# Altium schematic symbol library IsolatedADCs.SCHLIB: 76 symbols
Pins are listed as number, name and electrical type; pins without a type are passive.

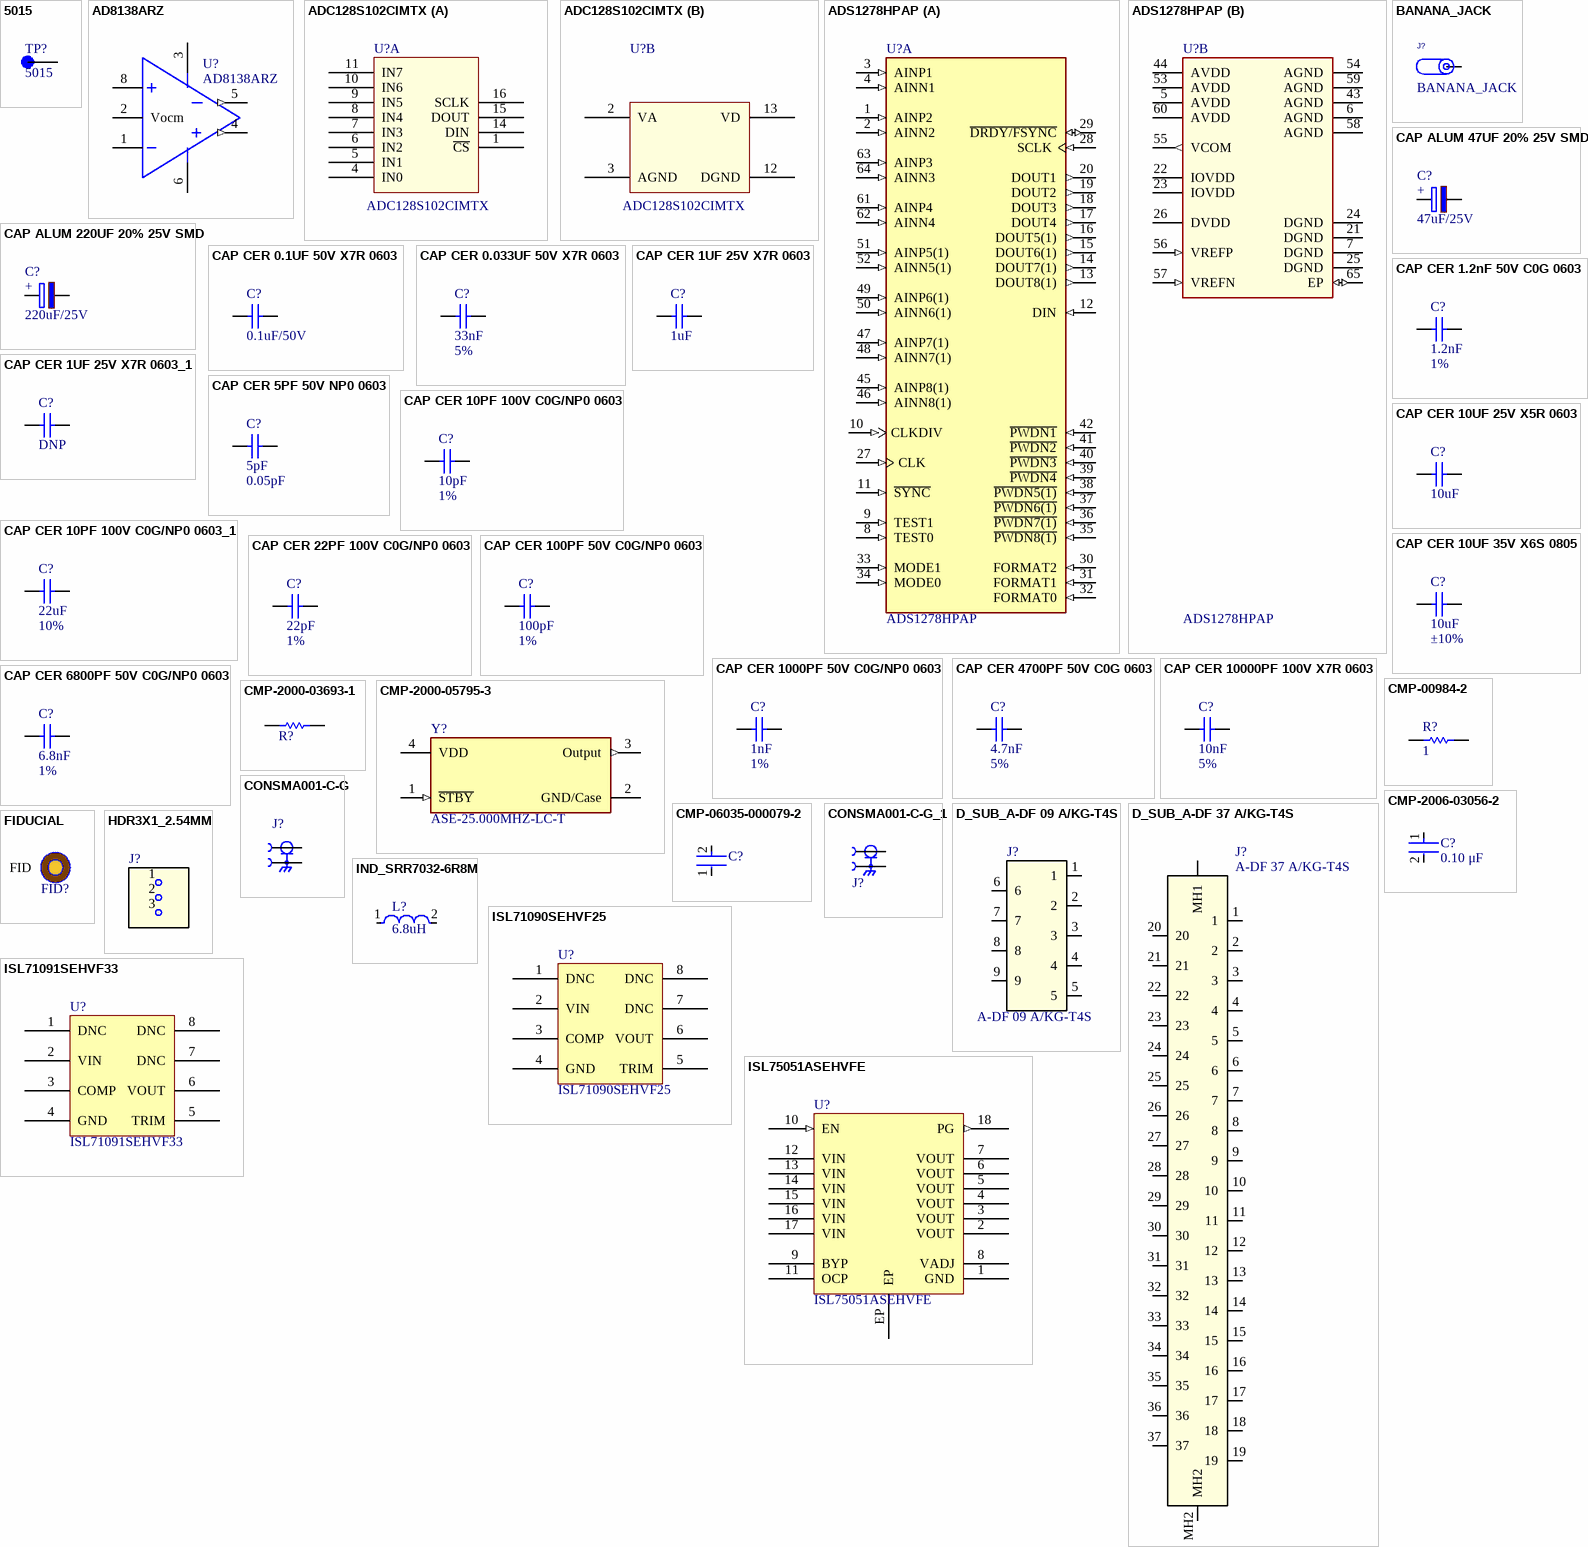
[diagram p0: symbols 5015 to ISL75051ASEHVFE]

## 5015
designator TP?
SMT Test Point- Micro Miniature-1000 pc Reels; MF: Keystone Electronics; MP: 5015; Price: None; Package: Test Point Keystone Electronics
footprint KEYSTONE_5015
pins: 1 TP

## AD8138ARZ
designator U?
IC OPAMP GP 2 CIRCUIT 8SO; Manufacturer: Analog Devices Inc.; Manufacturer Part Number: AD8138ARZ; Supplier 1: Mouser; Supplier Part Number 1: 584-AD8138ARZ
footprint FP-R-8-IPC_A
footprint FP-R-8-IPC_B
footprint FP-R-8-IPC_C
pins: 1 IN-, 2 Vocm, 3 V+, 4 OUT+ (out), 5 OUT- (out), 6 V-, 8 IN+

## ADC128S102CIMTX
designator U?
12 Bit Analog to Digital Converter 8 Input 1 SAR 16-TSSOP; Manufacturer: Texas Instruments; Number of Bits: 12; Number of A/D Converters: 1; Resolution: 12b; Number of Analog Inputs: 8; Max Power Dissipation: 15.5mW; Min Supply Voltage: 2.7V; Power Consumption: 2.3mW; Supply Type: Analog,Digital,Single; Interface: SPI,Serial; Integral Nonlinearity (INL): 1.2LSB; Max Supply Voltage: 5.25V; Full Scale Error: 2LSB; Conversion Rate: 1000KS/s; Signal to Noise Ratio (SNR): 73dB; Polarity: Unipolar; Sampling Rate: 1MS/s; Operating Supply Voltage: 5V; Mount: Surface Mount; Contact Plating: Tin,Lead; Lead Free: Contains Lead; Max Operating Temperature: 105°C; Case/Package: TSSOP; Radiation Hardening: No; Min Operating Temperature: -40°C; Packaging: Tape and Reel; Package Quantity: 2500; Number of Converters: 1; Number of Pins: 16; Number of Channels: 8; Manufacturer Part Number: ADC128S102CIMTX; Supplier Part Number 1: 557142-ADC128S102CIMTX; Supplier 1: Win Source Electronics
footprint TSOP65P640X120-16N (TSOP, 16-Leads, Body 5.00x4.40mm, Pitch 0.65mm, IPC Medium Density)
part A pins: 1 ~{CS}, 4 IN0, 5 IN1, 6 IN2, 7 IN3, 8 IN4, 9 IN5, 10 IN6, 11 IN7, 14 DIN, 15 DOUT, 16 SCLK
part B pins: 2 VA, 3 AGND, 12 DGND, 13 VD

## ADS1278HPAP
designator U?
IC ADC 24BIT SIGMA-DELTA 64HTQFP; Manufacturer: Texas Instruments; Package: 64-HTQFP; Supplier Part Number 1: 296-43534-5-ND; Value: ADS1278HPAP; Manufacturer Part Number: ADS1278HPAP; Supplier 1: Digi-Key
footprint 64-HTQFP_100X100MM
part A pins: 1 AINP2 (in), 2 AINN2 (in), 3 AINP1 (in), 4 AINN1 (in), 8 TEST0 (in), 9 TEST1 (in), 10 CLKDIV (in), 11 ~{SYNC} (in), 12 DIN (in), 13 DOUT8(1) (out), 14 DOUT7(1) (out), 15 DOUT6(1) (out), 16 DOUT5(1) (out), 17 DOUT4 (out), 18 DOUT3 (out), 19 DOUT2 (out), 20 DOUT1 (out), 27 CLK (in), 28 SCLK (in), 29 ~{DRDY/FSYNC} (io), 30 FORMAT2 (in), 31 FORMAT1 (in), 32 FORMAT0 (in), 33 MODE1 (in), 34 MODE0 (in), 35 ~{PWDN8(1)} (in), 36 ~{PWDN7(1)} (in), 37 ~{PWDN6(1)} (in), 38 ~{PWDN5(1)} (in), 39 ~{PWDN4} (in), 40 ~{PWDN3} (in), 41 ~{PWDN2} (in), 42 ~{PWDN1} (in), 45 AINP8(1) (in), 46 AINN8(1) (in), 47 AINP7(1) (in), 48 AINN7(1) (in), 49 AINP6(1) (in), 50 AINN6(1) (in), 51 AINP5(1) (in), 52 AINN5(1) (in), 61 AINP4 (in), 62 AINN4 (in), 63 AINP3 (in), 64 AINN3 (in)
part B pins: 5 AVDD (power), 6 AGND (power), 7 DGND (power), 21 DGND (power), 22 IOVDD (power), 23 IOVDD (power), 24 DGND (power), 25 DGND (power), 26 DVDD (power), 43 AGND (power), 44 AVDD (power), 53 AVDD (power), 54 AGND (power), 55 VCOM (out), 56 VREFP (in), 57 VREFN (in), 58 AGND (power), 59 AGND (power), 60 AVDD (power), 65 EP (io)

## BANANA_JACK
designator J?
CONN BANANA JACK THRD; Manufacturer: Cinch Connectivity; Manufacturer Part Number: 108-0740-001; Supplier Part Number 1: J147-ND; Supplier 1: Digi-Key
footprint BAN-JACK-108-0740-001 (BAN-JACK)
pins: 1 IN1

## CAP ALUM 47UF 20% 25V SMD
designator C?, comment 47uF/25V
CAP ALUM 47UF 20% 25V SMD; Manufacturer Part Number: EDK476M025A9GAA; Manufacturer: KEMET; Supplier Part Number 1: 399-6051-1-ND; value: 47uF/25V; Supplier 1: Digi-Key; Height: 5.5mm; ComponentLink1Description: New link; ComponentLink1URL: *; Tolerance: ±20%
footprint CAP_AE660X550N
pins: 1, 2
text: +

## CAP ALUM 220UF 20% 25V SMD
designator C?, comment 220uF/25V
CAP ALUM 220UF 20% 25V SMD; Manufacturer Part Number: EMZA250ADA221MHA0G; Manufacturer: United Chemi-Con; Supplier Part Number 1: 565-2550-1-ND; value: 220uF/25V; Supplier 1: Digi-Key; Height: 10.5mm; ComponentLink1Description: New link; ComponentLink1URL: *; Tolerance: ±20%
footprint CAP_AE830X1050N
pins: 1, 2
text: +

## CAP CER 0.1UF 50V X7R 0603
designator C?, comment 0.1uF/50V
CAP CER 0.1UF 50V X7R 0603; Manufacturer Part Number: CL10B104KB8NNNC; Manufacturer: Samsung Electro-Mechanics; Tolerance: ±10%; Supplier Part Number 1: 1276-1000-1-ND; Package: 0603; value: 0.1uF/50V; Supplier 1: Digi-Key; Height: 0.9mm; ComponentLink1Description: New link; ComponentLink1URL: *; Voltage - Rated: 50V
footprint CAPC1608X90N (C0603)
pins: 1, 2

## CAP CER 0.033UF 50V X7R 0603
designator C?, comment 33nF  Tolerance: 5%
CAP CER 0.033UF 50V X7R 0603; Manufacturer Part Number: 06035C333JAT2A; Manufacturer: KYOCERA AVX; Supplier Part Number 1: 478-3723-1-ND; Package: 0603; value: 33nF; Supplier 1: Digi-Key; Height: 0.9mm; ComponentLink1Description: New link; ComponentLink1URL: *; Voltage - Rated: 50V
footprint CAPC1608X90N (C0603)
pins: 1, 2

## CAP CER 1.2nF 50V C0G 0603
designator C?, comment 1.2nF  Tolerance: 1%
CAP CER 1.2nF 50V C0G 0603; Manufacturer Part Number: C0603C122F5GAC7867; Manufacturer: KEMET; Supplier Part Number 1: 399-17578-1-ND; Package: 0603; value: 1.2nF; Supplier 1: Digi-Key; Height: 0.9mm; ComponentLink1Description: New link; ComponentLink1URL: *; Voltage - Rated: 50V
footprint CAPC1608X90N (C0603)
pins: 1, 2

## CAP CER 1UF 25V X7R 0603
designator C?, comment 1uF
CAP CER 1UF 25V X7R 0603; Manufacturer Part Number: GCM188R71E105KA64D; Manufacturer: Murata Electronics; Tolerance: ±10%; Supplier Part Number 1: 490-10673-1-ND; Package: 0603; value: 1uF; Supplier 1: Digi-Key; Height: 0.9mm; ComponentLink1Description: New link; ComponentLink1URL: *; Voltage - Rated: 25V
footprint CAPC1608X90N (C0603)
pins: 1, 2

## CAP CER 1UF 25V X7R 0603_1
designator C?, comment DNP
CAP CER 1UF 25V X7R 0603; Manufacturer Part Number: GCM188R71E105KA64D; Manufacturer: Murata Electronics; Tolerance: ±10%; Supplier Part Number 1: 490-10673-1-ND; Package: 0603; value: 1uF; Supplier 1: Digi-Key; Height: 0.9mm; ComponentLink1Description: New link; ComponentLink1URL: *; Voltage - Rated: 25V
footprint CAPC1608X90N (C0603)
pins: 1, 2

## CAP CER 5PF 50V NP0 0603
designator C?, comment 5pF  Tolerance: 0.05pF
CAP CER 5PF 50V NP0 0603; Manufacturer Part Number: CBR06C509A5GAC; Manufacturer: KEMET; Supplier Part Number 1: 399-17323-1-ND; Package: 0603; value: 5pF; Supplier 1: Digi-Key; Height: 0.9mm; ComponentLink1Description: New link; ComponentLink1URL: *; Voltage - Rated: 50V
footprint CAPC1608X90N (C0603)
pins: 1, 2

## CAP CER 10PF 100V C0G/NP0 0603
designator C?, comment 10pF  Tolerance: 1%
CAP CER 10PF 100V C0G/NP0 0603; Manufacturer Part Number: 06031A100FAT2A; Manufacturer: KYOCERA AVX; Supplier Part Number 1: 478-5769-1-ND; Package: 0603; value: 10pF; Supplier 1: Digi-Key; Height: 0.9mm; ComponentLink1Description: New link; ComponentLink1URL: *; Voltage - Rated: 100V
footprint CAPC1608X90N (C0603)
pins: 1, 2

## CAP CER 10PF 100V C0G/NP0 0603_1
designator C?, comment 22uF  Tolerance: 10%
CAP CER 10PF 100V C0G/NP0 0603; Manufacturer Part Number: CL31A226KOHNNNE; Manufacturer: Samsung Electro-Mechanics; Supplier Part Number 1: 1276-3048-1-ND; value: 22uF; Supplier 1: Digi-Key; Height: 1.8mm; ComponentLink1Description: New link; ComponentLink1URL: *; Package: 1206
footprint CAPC3216X180N
pins: 1, 2

## CAP CER 10UF 25V X5R 0603
designator C?, comment 10uF
CAP CER 10UF 25V X5R 0603; Manufacturer Part Number: GRM188R61E106KA73D; Manufacturer: Murata Electronics; Tolerance: ±10%; Supplier Part Number 1: 490-18214-1-ND; Package: 0603; value: 10uF; Supplier 1: Digi-Key; Height: 1mm; ComponentLink1Description: New link; ComponentLink1URL: *; Voltage - Rated: 25V
footprint CAPC1608X90N (C0603)
pins: 1, 2

## CAP CER 10UF 35V X6S 0805
designator C?, comment 10uF  Tolerance: ±10%
CAP CER 10UF 35V X6S 0805; Manufacturer Part Number: GRM21BC8YA106KE11L; Manufacturer: Murata Electronics; Supplier Part Number 1: 490-10504-1-ND; Package: 0805; value: 10uF; Supplier 1: Digi-Key; Height: 1.45mm; ComponentLink1Description: New link; ComponentLink1URL: *; Voltage - Rated: 35V
footprint CAPC2012X145USR (Capacitor, Chip; 2.00 mm L X 1.25 mm W X 1.45 mm H body)
pins: 1, 2

## CAP CER 22PF 100V C0G/NP0 0603
designator C?, comment 22pF  Tolerance: 1%
CAP CER 22PF 100V C0G/NP0 0603; Manufacturer Part Number: GCM1885C2A220FA16D; Manufacturer: Murata Electronics; Supplier Part Number 1: 490-16413-1-ND; Package: 0603; value: 22pF; Supplier 1: Digi-Key; Height: 0.9mm; ComponentLink1Description: New link; ComponentLink1URL: *; Voltage - Rated: 100V
footprint CAPC1608X90N (C0603)
pins: 1, 2

## CAP CER 100PF 50V C0G/NP0 0603
designator C?, comment 100pF  Tolerance: 1%
CAP CER 100PF 50V C0G/NP0 0603; Manufacturer Part Number: 06035A101FAT2A; Manufacturer: KYOCERA AVX; Supplier Part Number 1: 478-6202-1-ND; Package: 0603; value: 100pF; Supplier 1: Digi-Key; Height: 0.9mm; ComponentLink1Description: New link; ComponentLink1URL: *; Voltage - Rated: 50V
footprint CAPC1608X90N (C0603)
pins: 1, 2

## CAP CER 1000PF 50V C0G/NP0 0603
designator C?, comment 1nF  Tolerance: 1%
CAP CER 1000PF 50V C0G/NP0 0603; Manufacturer Part Number: 06035A102FAT2A; Manufacturer: KYOCERA AVX; Supplier Part Number 1: 478-5005-1-ND; Package: 0603; value: 1nF; Supplier 1: Digi-Key; Height: 0.9mm; ComponentLink1Description: New link; ComponentLink1URL: *; Voltage - Rated: 50V
footprint CAPC1608X90N (C0603)
pins: 1, 2

## CAP CER 4700PF 50V C0G 0603
designator C?, comment 4.7nF  Tolerance: 5%
CAP CER 4700PF 50V C0G 0603; Manufacturer Part Number: CGA3E2C0G1H472J080AA; Manufacturer: TDK Corporation; Supplier Part Number 1: 445-6912-1-ND; Package: 0603; value: 4.7nF; Supplier 1: Digi-Key; Height: 0.9mm; ComponentLink1Description: New link; ComponentLink1URL: *; Voltage - Rated: 50V
footprint CAPC1608X90N (C0603)
pins: 1, 2

## CAP CER 6800PF 50V C0G/NP0 0603
designator C?, comment 6.8nF  Tolerance: 1%
CAP CER 6800PF 50V C0G/NP0 0603; Manufacturer Part Number: C0603C682F3GAC7867; Manufacturer: KEMET; Voltage - Rated: 25V; Supplier Part Number 1: 399-C0603C682F3GAC7867CT-ND; Package: 0603; value: 6.8nF; Supplier 1: Digi-Key; Height: 0.9mm; ComponentLink1Description: New link; ComponentLink1URL: *
footprint CAPC1608X90N (C0603)
pins: 1, 2

## CAP CER 10000PF 100V X7R 0603
designator C?, comment 10nF  Tolerance: 5%
CAP CER 10000PF 100V X7R 0603; Manufacturer Part Number: 06031C103JAT2A; Manufacturer: KYOCERA AVX; Supplier Part Number 1: 478-3700-1-ND; Package: 0603; value: 10nF; Supplier 1: Digi-Key; Height: 0.9mm; ComponentLink1Description: New link; ComponentLink1URL: *; Voltage - Rated: 100V
footprint CAPC1608X90N (C0603)
pins: 1, 2

## CMP-00984-2
designator R?, comment 1
RES, RM, 1 OHM, 5 %, 1/10 W, 200 PPM, 0603, THICK FILM; FM (SMD) Part Number: M55342L12B1J00RWB; Manufacturer: Vishay; Tolerance: 1%; Max Power Dissipation: 100mW; Voltage Rating: 50V; Failure Rate Level: R; Temperature Coefficient: 200ppm; Mil Spec: MIL-PRF-55342/12; Resistance: 1; Mount: SMD; Style: RM; ComponentLink1URL: https://www.vishay.com/docs/31010/rcwpm.pdf; Case/Package: 0603 (1608 mm); Number of Pins: 2; Operating Temperature Low: -65°C; RoHS: No; Composition: Thick Film; ComponentLink1Description: Datasheet - Manufacturer; Operating Temperature High: 150°C; Manufacturer Part Number: M55342L12B1J00RWB; ComponentLink2Description: Datasheet - Mil Spec; ComponentLink2URL: https://quicksearch.dla.mil/qsDocDetails.aspx?ident_number=208057; EM Part Number: M55342L12B1J00RWB
footprint RM0603B (RM0603 Chip Resistor, Config B, 2-Leads, Body 1.63x0.82mm, IPC Medium Density)
pins: 1, 2
1 alternate drawing of the same symbol

## CMP-2000-03693-1
designator R?, comment TNPW060310K0BETA  (value not drawn)
10.0K 0.1% 0603; Manufacturer: Vishay Dale; Part Number: TNPW060310K0BETA; Manufacturer Part Number: TNPW060310K0BETA
footprint RESC1609X55X30ML10T20 (Chip Resistor, 2-Leads, Body 1.60x0.85mm, IPC Low Density)
footprint RESC1609X55X30LL10T20 (Chip Resistor, 2-Leads, Body 1.60x0.85mm, IPC High Density)
footprint RESC1609X55X30NL10T20 (Chip Resistor, 2-Leads, Body 1.60x0.85mm, IPC Medium Density)
pins: 1, 2
1 alternate drawing of the same symbol

## CMP-2000-05795-3
designator Y?, comment ASE-25.000MHZ-LC-T
XTAL Oscillator 25MHz ±50ppm CMOS 3.3V 4-SMD 3.2mm x 2.5mm; Manufacturer: Abracon; Load Capacitance: 15pF; Min Supply Voltage: 3.135V; Max Supply Voltage: 3.465V; Max Supply Current: 13mA; Max Operating Temperature: 85°C; Termination: SMD/SMT; Operating Frequency: 25 MHz; Height: 0.047inch; Frequency: 25MHz; Mount: Surface Mount; Number of Pins: 4; Length: 3.2mm; Packaging: Tape and Reel; Frequency Stability: 50ppm; Series: ASE; Radiation Hardening: No; Package Quantity: 1000; Width: 2.5mm; Min Operating Temperature: -40°C; Lead Free: Lead Free; Case/Package: SMD/SMT; Depth: 2.5mm; Operating Supply Voltage: 3.3V; Manufacturer Part Number: ASE-25.000MHZ-LC-T
footprint FP-ASE-MFG
pins: 1 ~{STBY} (in), 2 GND/Case (power), 3 Output (out), 4 VDD (power)

## CMP-2006-03056-2
designator C?, comment 0.10 μF
CAP CER 0.1UF 50V 5% X7R 0603; Manufacturer Part Number: C0603C104J5RACTU; Manufacturer: KEMET; Automotive Grade: Grade 1; Tolerance: 0.05; Material: Ceramic; Temperature Coefficient: 30ppm/°C; ComponentLink2Description: Datasheet; Voltage Rating: 50 V; Digikey Description: CAP CER 0.1UF 50V 5% X7R 0603; Temperature Range High: +125°C; Device Class L2: Capacitors; Capacitance: 0.10 μF; Value: 0.10 μF; Octopart: https://octopart.com/c0603c104j5ractu-kemet-10440638; RoHS: TRUE; Mouser Description: Multilayer Ceramic Capacitors MLCC - SMD/SMT 50volts 0.1uF X7R 5%; Temperature Range Low: -55°C; Automotive: Yes; Lead Free: Yes; ComponentLink2URL: https://api.kemet.com/component-edge/download/datasheet/C0603C100J5GACAUTO.pdf; Device Class L3: Ceramic Capacitors; Package: C0603C-CF; Category: Cap; Temperature: -55°C to +125°C; Height: 0.87mm; Temperature Characteristic: X7R; Device Class L1: Passive Components
footprint FP-C0603C-CF-MFG
footprint FP-C0603C-CF-IPC_C
footprint FP-C0603C-CF-IPC_B
footprint FP-C0603C-CF-IPC_A
pins: 1, 2

## CMP-06035-000079-2
designator C?, comment GRM31CR60J227ME11L  (value not drawn)
Chip Multilayer Ceramic Capacitors for General Purpose, 1206, 220uF, X5R, 15%, 20%, 6.3V; Manufacturer: Murata; Mount: Surface Mount; Width: 0.063inch; Voltage Rating: 6.3V; Packaging: Cut Tape; Dielectric: X5R; Capacitance: 220uF; Voltage Rating (DC): 6.3V; Case/Package: 1206; Thickness: 0.075inch; Tolerance: 20%; Max Operating Temperature: 85°C; Case Code (Metric): 3216; Min Operating Temperature: -55°C; Length: 0.126inch; REACH SVHC: No SVHC; Case Code (Imperial): 1206; Manufacturer Part Number: GRM31CR60J227ME11L
footprint FP-GRM31C-0_3-e0_3_0_9-IPC_C
footprint FP-GRM31C-0_3-e0_3_0_9-MFG
footprint FP-GRM31C-0_3-e0_3_0_9-IPC_A
footprint FP-GRM31C-0_3-e0_3_0_9-IPC_B
pins: 1, 2

## CONSMA001-C-G
designator J?, comment 73251-1350  (value not drawn)
RF Connectors / Coaxial Connectors SMA ST PCB-JCK STD SMT; Manufacturer: Molex; Package: None; Supplier 1: Arrow Electronics; Supplier Part Number 1: 73251-1350; Manufacturer Part Number: 73251-1350; RoHS: Yes; Category: RF / Coaxial Connectors; Stock 1: 2; Pricing 1: 1=2.43470, 10=2.31840, 100=2.10910, 1000=1.92920, 2500=1.88760 (USD)
footprint MOLEX_73251-1350
pins: 1, S1 2, S2 2, S3 2, S4 2

## CONSMA001-C-G_1
designator J?, comment 73251-1350  (value not drawn)
RF Connectors / Coaxial Connectors SMA ST PCB-JCK STD SMT; Manufacturer: Molex; MP: CONSMA001-C-G; MF: Linx Technologies; Value: *; Digi-Key_Part_Number: 343-CONSMA001-C-G-ND; Package: None; Supplier 1: Arrow Electronics; Supplier Part Number 1: 73251-1350; Manufacturer Part Number: 73251-1350; RoHS: Yes; Category: RF / Coaxial Connectors; Stock 1: 2; Pricing 1: 1=2.43470, 10=2.31840, 100=2.10910, 1000=1.92920, 2500=1.88760 (USD)
footprint MOLEX_73251-1350
pins: 1, S1 2, S2 2, S3 2, S4 2

## D_SUB_A-DF 09 A/KG-T4S
designator J?, comment A-DF 09 A/KG-T4S
CONN D-SUB RCPT 9POS R/A SLDR; Manufacturer: Assmann; Manufacturer Part Number: A-DF 09 A/KG-T4S; Supplier Part Number 1: AE10924-ND; Supplier 1: Digi-Key; value: A-DF 09 A/KG-T4S
footprint CONN_A-DF 09 A/KG-T4S_ASM
pins: 1, 2, 3, 4, 5, 6, 7, 8, 9

## D_SUB_A-DF 37 A/KG-T4S
designator J?, comment A-DF 37 A/KG-T4S
CONN D-SUB RCPT 37POS R/A SLDR; Manufacturer: Assmann WSW Components; Manufacturer Part Number: A-DF 37 A/KG-T4S; Supplier Part Number 1: AE10944-ND; Supplier 1: Digi-Key
footprint CONN_A-DF 37 A/KG-T4S
pins: 1, 2, 3, 4, 5, 6, 7, 8, 9, 10, 11, 12, 13, 14, 15, 16, 17, 18, 19, 20, 21, 22, 23, 24, 25, 26, 27, 28, 29, 30, 31, 32, 33, 34, 35, 36, 37, MH1, MH2

## FIDUCIAL
designator FID?  (no BOM)
Fiducial with various available footprints
footprint FID_040
pins: FID (in)

## HDR3X1_2.54MM
designator J?
CONN HEADER VERT 3POS 2.54MM; Manufacturer Part Number: 61300311121; Manufacturer: Würth Elektronik; Supplier Part Number 1: 732-5316-ND; Supplier 1: Digi-Key
footprint 3pin  2.54 mm Breakaway (Molex Verticle 4 pin Debug header)
pins: 1, 2, 3

## IND_SRR7032-6R8M
designator L?, comment 6.8uH
FIXED IND 6.8UH 1.6A 54 MOHM SMD; Manufacturer: Bourns Inc.; Manufacturer Part Number: SRR7032-6R8M; Supplier Part Number 1: 652-SRR7032-6R8M; value: 6.8uH; Supplier 1: Mouser
footprint IND_BOURNS_SRR7032
pins: 1, 2

## ISL71090SEHVF25
designator U?
Voltage Reference, 2.5 VDC, Precision Low Noise, 100krad, CFP-8, Class V; Manufacturer: Renesas / Intersil; EM Part Number: ISL71090SEHF25/PROTO; FM (SMD) Part Number: 5962R1321102VXC; Output Voltage: 2.5V; Output Current Max: 20mA; SEL: 86MeV*cm2/mg; Lead Form: Yes; Input Voltage Low: 4V; Input Voltage High: 40V; Manufacturer Part Number: ISL71090SEHVF25; Package: 8 Lead Flatpack; ComponentLink2Description: Datasheet - Mil Spec; ComponentLink1URL: https://www.renesas.com/us/en/www/doc/datasheet/isl71090seh25.pdf; Distributor: Avnet; ComponentLink1Description: Datasheet - Manufacturer; Mount Type: SMT; ComponentLink2URL: https://landandmaritimeapps.dla.mil/Downloads/MilSpec/Smd/13211.pdf; TID: 100krad; Supplier Part Number 1: ISL71090SEHVF25; Supplier 1: Renesas / Intersil
footprint CFP127P1040X279-8N (CFP, 8-Leads, Body 6.73x6.73mm (max), Pitch 1.27mm, IPC Medium Density)
pins: 1 DNC, 2 VIN (power), 3 COMP, 4 GND (power), 5 TRIM (hiz), 6 VOUT (power), 7 DNC, 8 DNC

## ISL71091SEHVF33
designator U?
Voltage Reference, Precision Low Noise, 3.3 VDC, 100krad, CFP-8, Class V; Manufacturer: Renesas / Intersil; EM Part Number: ISL71091SEHF33/PROTO; FM (SMD) Part Number: 5962R1420802VXC; Output Voltage: 3.3V; Output Current Max: 10mA; SEL: 86MeV*cm2/mg; Lead Form: Yes; Quiscent Current: 0.3mA Typical; Supply Voltage Min: 4.6V; HBR Standard: TBD; Supply Voltage Max: 30V; Temperature Coefficient: 6ppm/°C; Manufacturer Part Number: ISL71091SEHVF33; ComponentLink2Description: Datasheet - Mil Spec; ComponentLink1URL: https://www.renesas.com/us/en/www/doc/datasheet/isl71091seh33.pdf; ComponentLink1Description: Datasheet - Manufacturer; Mount Type: SMD; ComponentLink2URL: https://landandmaritimeapps.dla.mil/Downloads/MilSpec/Smd/14208.pdf; TID: 100krad; RoHS: Yes; Operating Temperature Max: 125°C; Case/Package: CFP-8; Operating Temperature Min: -55°C; Device Class: V; Supplier Part Number 1: ISL71091SEHVF33; Supplier 1: Renesas / Intersil
footprint CFP127P1040X279-8N (CFP, 8-Leads, Body 6.73x6.73mm (max), Pitch 1.27mm, IPC Medium Density)
pins: 1 DNC, 2 VIN (power), 3 COMP, 4 GND (power), 5 TRIM (hiz), 6 VOUT (power), 7 DNC, 8 DNC

## ISL75051ASEHVFE
designator U?
Voltage regulator, linear, variable, 3 A, CFP-18 exposed pad, class V; Manufacturer: Renesas / Intersil; FM (SMD) Part Number: 5962R1121203VYC; EM Part Number: ISL75051ASEHFE/PROTO; Output Voltage: 0.8 - 5.0V; TID: 50krad (LDR), 100krad (HDR); Output Current Max: 3A; SEL: 86.3MeV*cm2/mg; Input Voltage High: 6V; Mass: 1.07g; Input Voltage Low: 2.2V; Lead Form: Yes; Manufacturer Part Number: ISL75051ASEHVFE; ComponentLink2URL: https://landandmaritimeapps.dla.mil/downloads/milspec/smd/11212.pdf; ComponentLink1URL: https://www.renesas.com/us/en/www/doc/datasheet/isl75051aseh-3051aseh.pdf; Package: CFP-18 (exposed pad); Mount Type: SMT; Distributor: Avnet; ComponentLink1Description: Datasheet - Manufacturer; ComponentLink2Description: Datasheet - Mil Spec; Device Class: V; Supplier Part Number 1: ISL75051ASEHVFE; Supplier 1: Renesas / Intersil
footprint CFP102P1520X310-18AN (CFP, 18-Leads, Exposed Pad, Body 12.09x10.08mm (max), Pitch 1.02mm, IPC Medium Density)
pins: 1 GND (power), 2 VOUT (power), 3 VOUT (power), 4 VOUT (power), 5 VOUT (power), 6 VOUT (power), 7 VOUT (power), 8 VADJ, 9 BYP, 10 EN (in), 11 OCP, 12 VIN (power), 13 VIN (power), 14 VIN (power), 15 VIN (power), 16 VIN (power), 17 VIN (power), 18 PG (out), EP

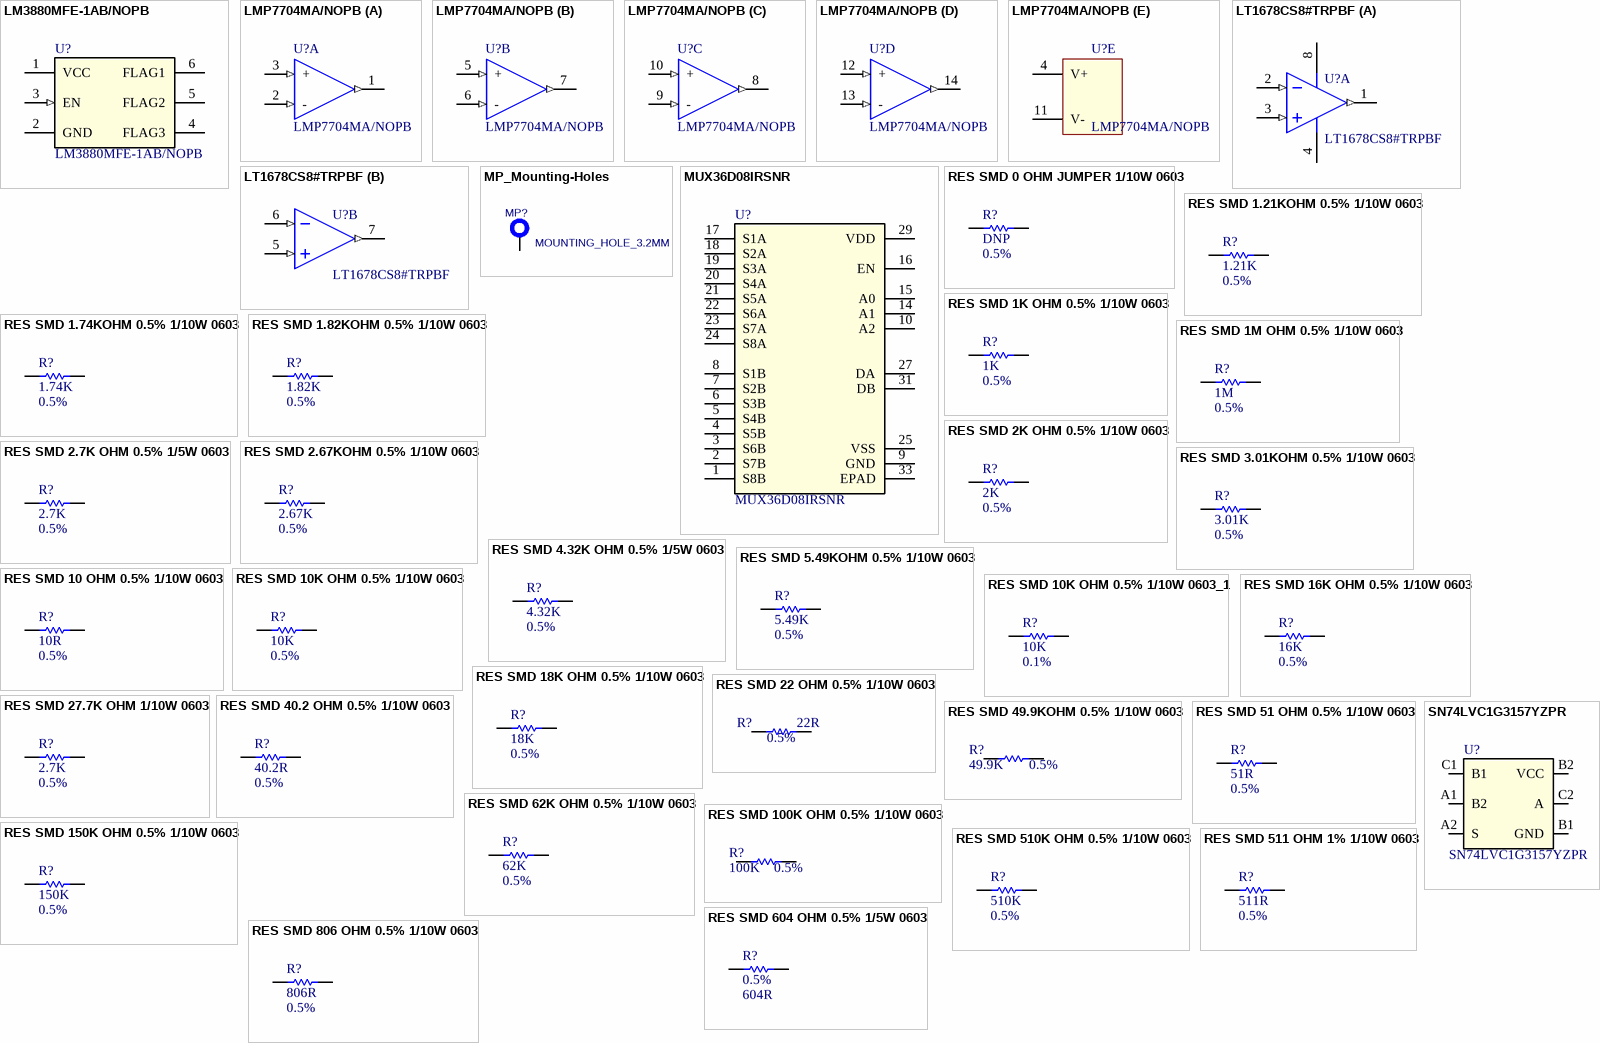
[diagram p1: symbols LM3880MFE-1AB/NOPB to SN74LVC1G3157YZPR]

## LM3880MFE-1AB/NOPB
designator U?
IC PWR SUPPLY SEQUENCER SOT23-6; Manufacturer: Texas Instruments; Supplier Part Number 1: LM3880MFE-1AB/NOPBTR-ND; Manufacturer Part Number: LM3880MFE-1AB/NOPB; Supplier 1: Digi-Key
footprint SOT-23-6
pins: 1 VCC (power), 2 GND (power), 3 EN (in), 4 FLAG3 (oc), 5 FLAG2 (oc), 6 FLAG1 (oc)

## LMP7704MA/NOPB
designator U?
General Purpose Amplifier 4 Circuit Rail-to-Rail 14-SOIC; Manufacturer: TI; EM Part Number: ISL70244SEHF/PROTO; FM (SMD) Part Number: 5962F1324801VXC; Supply Voltage Min: 2.7V; HBR Standard: TBD; SEL: 86.4MeV*cm2/mg; Supply Voltage Max: 40V; Lead Form: Yes; TID: 50 krad (LDR), 300 krad (HDR); Manufacturer Part Number: LMP7704MA/NOPB; Case/Package: SOIC-14; Device Class: V; Mount Type: SMD; Operating Temperature Max: 125°C; RoHS: Yes; Distributor: Avnet; Operating Temperature Min: -55°C; Supplier Part Number 1: ISL70244SEHVF; Supplier 1: Renesas / Intersil
footprint CDFP3-F10 (CFP, 10-Leads, Body 7.37x7.11mm (max), Pitch 1.27mm, IPC Medium Density)
part A pins: 1 OUT (out), 2 - (in), 3 + (in)
part B pins: 5 + (in), 6 - (in), 7 OUT (out)
part C pins: 8 OUT (out), 9 - (in), 10 + (in)
part D pins: 12 + (in), 13 - (in), 14 OUT (out)
part E pins: 4 V+ (power), 11 V- (power)

## LT1678CS8#TRPBF
designator U?
Dual Channel, Very Low 1/f Corner Frequency Precision Operational Amplifier, 20 MHz Typical GBW, 6 V/us Typical SR, 3 to 36 V, 8-Pin SOIC (S8-8), Commercial, Pb-Free, Reel; Manufacturer: Linear Technology; Linear Technology Part Number: LT1678; Vs Max (V): 36; Is (mA) Typical: 2; Vs Min (V): 3; SR (V/us) Typical: 6; Vos (mV) Typical: 0.035; Vos (mV) Guaranteed: 0.1; GBW (MHz) Typical: 20; ComponentLink1Description: Manufacturer URL; ComponentLink2Description: Datasheet; PackageDescription: 8-Pin Plastic Small Outline, Body 4.9 x 3.9 mm, Pitch 1.27 mm; PackageReference: LT-S8-8; RoHS: Pb-Free; ComponentLink3Description: Package Specification; Channels (#): 2; ComponentLink1URL: http://www.linear.com/; ComponentLink3URL: http://cds.linear.com/docs/en/packaging/05081610_G_SO8.pdf; PackageVersion: Rev G; RevisionNote: URLs updated; ComponentLink2URL: http://cds.linear.com/docs/en/datasheet/16789fs.pdf; Mounting Technology: Surface Mount; Type: VFB; Packing: Reel; Manufacturer Part Number: LT1678CS8#TRPBF; Supplier Part Number 1: LT1678CS8#TRPBFTR-ND; Supplier 1: Digi-Key
footprint LT-S8-8_N (SOIC, 8-Leads, Body 4.9x3.9mm, Pitch 1.27mm, IPC Medium Density)
footprint LT-S8-8_M (SOIC, 8-Leads, Body 4.9x3.9mm, Pitch 1.27mm, IPC Low Density)
footprint LT-S8-8_L (SOIC, 8-Leads, Body 4.9x3.9mm, Pitch 1.27mm, IPC High Density)
part A pins: 1 OUT A (out), 2 -IN A (in), 3 +IN A (in), 4, 8
part B pins: 5 +IN B (in), 6 -IN B (in), 7 OUT B (out)

## MP_Mounting-Holes
designator MP?  (no BOM)
=CurrentFootprint; B - Value: Not a Part; A - Level: 0
footprint MOUNTING_HOLE_3.2MM (NPTH 2.2mm Hole Used in Raspberry Pi Camera)
pins: 1

## MUX36D08IRSNR
designator U?
IC SWITCH DUAL 32WQFN; Manufacturer: Texas Instruments; Manufacturer Part Number: MUX36D08IRSNR; Supplier Part Number 1: 296-49113-1-ND; Supplier 1: Digi-Key; Package: 32-QFN
footprint QFN32_40X40MM
pins: 1 S8B, 2 S7B, 3 S6B, 4 S5B, 5 S4B, 6 S3B, 7 S2B, 8 S1B, 9 GND, 10 A2, 14 A1, 15 A0, 16 EN, 17 S1A, 18 S2A, 19 S3A, 20 S4A, 21 S5A, 22 S6A, 23 S7A, 24 S8A, 25 VSS, 27 DA, 29 VDD, 31 DB, 33 EPAD

## RES SMD 0 OHM JUMPER 1/10W 0603
designator R?, comment DNP  Tolerance: 0.5%
RES SMD 0 OHM JUMPER 1/10W 0603; Manufacturer: Yageo; Manufacturer Part Number: RC0603JR-070RL; value: 0R; Supplier Part Number 1: 311-0.0GRCT-ND; Package: 0603; Height: 0.55mm; Supplier 1: Digi-Key
footprint RESC1608X55N (Chip Capacitor, Body 1.6x0.8mm, IPC High Density)
pins: 1, 2

## RES SMD 1.21KOHM 0.5% 1/10W 0603
designator R?, comment 1.21K  Tolerance: 0.5%
RES SMD 1.21KOHM 0.5% 1/10W 0603; Manufacturer: Yageo; Manufacturer Part Number: RT0603DRD071K21L; Supplier Part Number 1: 311-1.21KDCT-ND; Package: 0603; Height: 0.55mm; Supplier 1: Digi-Key; value: 1.21K
footprint RESC1608X55N (Chip Capacitor, Body 1.6x0.8mm, IPC High Density)
pins: 1, 2

## RES SMD 1.74KOHM 0.5% 1/10W 0603
designator R?, comment 1.74K  Tolerance: 0.5%
RES SMD 1.74KOHM 0.5% 1/10W 0603; Manufacturer: Yageo; Manufacturer Part Number: RT0603DRE071K74L; Supplier Part Number 1: 311-2470-1-ND; Package: 0603; Height: 0.55mm; Supplier 1: Digi-Key; value: 1.74K
footprint RESC1608X55N (Chip Capacitor, Body 1.6x0.8mm, IPC High Density)
pins: 1, 2

## RES SMD 1.82KOHM 0.5% 1/10W 0603
designator R?, comment 1.82K  Tolerance: 0.5%
RES SMD 1.82KOHM 0.5% 1/10W 0603; Manufacturer: Yageo; Manufacturer Part Number: RT0603DRE071K82L; Supplier Part Number 1: 311-2471-1-ND; Package: 0603; Height: 0.55mm; Supplier 1: Digi-Key; value: 1.82K
footprint RESC1608X55N (Chip Capacitor, Body 1.6x0.8mm, IPC High Density)
pins: 1, 2

## RES SMD 1K OHM 0.5% 1/10W 0603
designator R?, comment 1K  Tolerance: 0.5%
RES SMD 1K OHM 0.5% 1/10W 0603; Manufacturer: Yageo; Manufacturer Part Number: RT0603DRD071KL; Supplier Part Number 1: 311-1.0KDCT-ND; Package: 0603; Height: 0.55mm; Supplier 1: Digi-Key; value: 1K
footprint RESC1608X55N (Chip Capacitor, Body 1.6x0.8mm, IPC High Density)
pins: 1, 2

## RES SMD 1M OHM 0.5% 1/10W 0603
designator R?, comment 1M  Tolerance: 0.5%
RES SMD 1M OHM 0.5% 1/10W 0603; Manufacturer: Yageo; Manufacturer Part Number: RC0603DR-071ML; Supplier Part Number 1: 13-RC0603DR-071MLCT-ND; Package: 0603; Height: 0.55mm; Supplier 1: Digi-Key; value: 1M
footprint RESC1608X55N (Chip Capacitor, Body 1.6x0.8mm, IPC High Density)
pins: 1, 2

## RES SMD 2.7K OHM 0.5% 1/5W 0603
designator R?, comment 2.7K  Tolerance: 0.5%
RES SMD 2.7K OHM 0.5% 1/10W 0603; Manufacturer: Yageo; Manufacturer Part Number: RT0603DRD072K7L; Supplier Part Number 1: 311-2.7KDCT-ND; Package: 0603; Height: 0.55mm; Supplier 1: Digi-Key; value: 2.7K
footprint RESC1608X55N (Chip Capacitor, Body 1.6x0.8mm, IPC High Density)
pins: 1, 2

## RES SMD 2.67KOHM 0.5% 1/10W 0603
designator R?, comment 2.67K  Tolerance: 0.5%
RES SMD 2.67KOHM 0.5% 1/10W 0603; Manufacturer: Yageo; Manufacturer Part Number: RT0603DRD072K67L; Supplier Part Number 1: 311-2.67KDCT-ND; Package: 0603; Height: 0.55mm; Supplier 1: Digi-Key; value: 2.67K
footprint RESC1608X55N (Chip Capacitor, Body 1.6x0.8mm, IPC High Density)
pins: 1, 2

## RES SMD 2K OHM 0.5% 1/10W 0603
designator R?, comment 2K  Tolerance: 0.5%
RES SMD 2K OHM 0.5% 1/10W 0603; Manufacturer: Yageo; Manufacturer Part Number: RC0603DR-072KL; Supplier Part Number 1: 13-RC0603DR-072KLCT-ND; Package: 0603; Height: 0.55mm; Supplier 1: Digi-Key; value: 2K
footprint RESC1608X55N (Chip Capacitor, Body 1.6x0.8mm, IPC High Density)
pins: 1, 2

## RES SMD 3.01KOHM 0.5% 1/10W 0603
designator R?, comment 3.01K  Tolerance: 0.5%
RES SMD 3.01KOHM 0.5% 1/10W 0603; Manufacturer: Yageo; Manufacturer Part Number: RT0603DRE073K01L; Supplier Part Number 1: 311-2560-1-ND; Package: 0603; Height: 0.55mm; Supplier 1: Digi-Key; value: 3.01K
footprint RESC1608X55N (Chip Capacitor, Body 1.6x0.8mm, IPC High Density)
pins: 1, 2

## RES SMD 4.32K OHM 0.5% 1/5W 0603
designator R?, comment 4.32K  Tolerance: 0.5%
RES SMD 4.32K OHM 0.5% 1/5W 0603; Manufacturer: Panasonic Electronic Components; Manufacturer Part Number: ERJ-PB3D4321V; Supplier Part Number 1: P20355CT-ND; Package: 0603; Height: 0.55mm; Supplier 1: Digi-Key; value: 4.32K
footprint RESC1608X55N (Chip Capacitor, Body 1.6x0.8mm, IPC High Density)
pins: 1, 2

## RES SMD 5.49KOHM 0.5% 1/10W 0603
designator R?, comment 5.49K  Tolerance: 0.5%
RES SMD 5.49KOHM 0.5% 1/10W 0603; Manufacturer: Yageo; Manufacturer Part Number: RT0603DRD075K49L; Supplier Part Number 1: 311-5.49KDCT-ND; Package: 0603; Height: 0.55mm; Supplier 1: Digi-Key; value: 5.49K
footprint RESC1608X55N (Chip Capacitor, Body 1.6x0.8mm, IPC High Density)
pins: 1, 2

## RES SMD 10 OHM 0.5% 1/10W 0603
designator R?, comment 10R  Tolerance: 0.5%
RES SMD 10 OHM 0.5% 1/10W 0603; Manufacturer: Yageo; Manufacturer Part Number: RT0603DRD0710RL; Supplier Part Number 1: 603-RT0603DRD0710RL; Package: 0603; Height: 0.55mm; Supplier 1: Mouser; value: 10R
footprint RESC1608X55N (Chip Capacitor, Body 1.6x0.8mm, IPC High Density)
pins: 1, 2

## RES SMD 10K OHM 0.5% 1/10W 0603
designator R?, comment 10K  Tolerance: 0.5%
RES SMD 10K OHM 0.5% 1/10W 0603; Manufacturer: Yageo; Manufacturer Part Number: RT0603DRD0710KL; Supplier Part Number 1: 311-10KDTR-ND; Package: 0603; Height: 0.55mm; Supplier 1: Digi-Key; value: 10K
footprint RESC1608X55N (Chip Capacitor, Body 1.6x0.8mm, IPC High Density)
pins: 1, 2

## RES SMD 10K OHM 0.5% 1/10W 0603_1
designator R?, comment 10K  Tolerance: 0.1%
RES SMD 10K OHM 0.1% 1/10W 0603; Manufacturer: Yageo; Manufacturer Part Number: RT0603BRE0710KL; Supplier Part Number 1: YAG2313CT-ND; Package: 0603; Height: 0.55mm; Supplier 1: Digi-Key; value: 10K
footprint RESC1608X55N (Chip Capacitor, Body 1.6x0.8mm, IPC High Density)
pins: 1, 2

## RES SMD 16K OHM 0.5% 1/10W 0603
designator R?, comment 16K  Tolerance: 0.5%
RES SMD 16K OHM 0.5% 1/10W 0603; Manufacturer: Yageo; Manufacturer Part Number: RT0603DRE0716KL; Supplier Part Number 1: 311-2442-1-ND; Package: 0603; Height: 0.55mm; Supplier 1: Digi-Key; value: 16K
footprint RESC1608X55N (Chip Capacitor, Body 1.6x0.8mm, IPC High Density)
pins: 1, 2

## RES SMD 18K OHM 0.5% 1/10W 0603
designator R?, comment 18K  Tolerance: 0.5%
RES SMD 18K OHM 0.5% 1/10W 0603; Manufacturer: Panasonic Electronic Components; Manufacturer Part Number: ERA-3AED183V; Supplier Part Number 1: P123748CT-ND; Package: 0603; Height: 0.55mm; Supplier 1: Digi-Key; value: 18K
footprint RESC1608X55N (Chip Capacitor, Body 1.6x0.8mm, IPC High Density)
pins: 1, 2

## RES SMD 22 OHM 0.5% 1/10W 0603
designator R?, comment 22R  Tolerance: 0.5%
RES SMD 22 OHM 0.5% 1/10W 0603; Manufacturer: Yageo; Manufacturer Part Number: RT0603DRD0722RL; Supplier Part Number 1: 13-RT0603DRD0722RLCT-ND; Package: 0603; Height: 0.55mm; Supplier 1: Digi-Key; value: 22R
footprint RESC1608X55N (Chip Capacitor, Body 1.6x0.8mm, IPC High Density)
pins: 1, 2

## RES SMD 27.7K OHM 1/10W 0603
designator R?, comment 2.7K  Tolerance: 0.5%
RES SMD 27.7K OHM 1/10W 0603; Manufacturer: Yageo; Manufacturer Part Number: RT0603DRE072K7L; Supplier Part Number 1: 311-2521-1-ND; Package: 0603; Height: 0.55mm; Supplier 1: Digi-Key; value: 2.7K
footprint RESC1608X55N (Chip Capacitor, Body 1.6x0.8mm, IPC High Density)
pins: 1, 2

## RES SMD 40.2 OHM 0.5% 1/10W 0603
designator R?, comment 40.2R  Tolerance: 0.5%
RES SMD 40.2 OHM 0.5% 1/10W 0603; Manufacturer: Yageo; Manufacturer Part Number: RT0603DRE0740R2L; Supplier Part Number 1: 311-2576-1-ND; Package: 0603; Height: 0.55mm; Supplier 1: Digi-Key; value: 40.2R
footprint RESC1608X55N (Chip Capacitor, Body 1.6x0.8mm, IPC High Density)
pins: 1, 2

## RES SMD 49.9KOHM 0.5% 1/10W 0603
designator R?, comment Tolerance: 0.5%  (hidden comment: 49.9K)
RES SMD 49.9KOHM 0.5% 1/10W 0603; Manufacturer Part Number: RT0603DRE0749K9L; Manufacturer: Yageo; Supplier Part Number 1: 311-2597-1-ND; Package: 0603; Height: 0.55mm; Supplier 1: Digi-Key; value: 49.9K
footprint RESC1608X55N (Chip Capacitor, Body 1.6x0.8mm, IPC High Density)
pins: 1, 2

## RES SMD 51 OHM 0.5% 1/10W 0603
designator R?, comment 51R  Tolerance: 0.5%
RES SMD 51 OHM 0.5% 1/10W 0603; Manufacturer: Yageo; Manufacturer Part Number: RT0603DRD0751RL; Supplier Part Number 1: 311-2379-1-ND; Package: 0603; Height: 0.55mm; Supplier 1: Digi-Key; value: 51R
footprint RESC1608X55N (Chip Capacitor, Body 1.6x0.8mm, IPC High Density)
pins: 1, 2

## RES SMD 62K OHM 0.5% 1/10W 0603
designator R?, comment 62K  Tolerance: 0.5%
RES SMD 62K OHM 0.5% 1/10W 0603; Manufacturer: Yageo; Manufacturer Part Number: RT0603DRD0762KL; Supplier Part Number 1: 311-62KDCT-ND; Package: 0603; Height: 0.55mm; Supplier 1: Digi-Key; value: 62K
footprint RESC1608X55N (Chip Capacitor, Body 1.6x0.8mm, IPC High Density)
pins: 1, 2

## RES SMD 100K OHM 0.5% 1/10W 0603
designator R?, comment Tolerance: 0.5%  (hidden comment: 100K)
RES SMD 100K OHM 0.5% 1/10W 0603; Manufacturer Part Number: RC0603DR-07100KL; Manufacturer: Yageo; Supplier Part Number 1: 13-RC0603DR-07100KLCT-ND; Package: 0603; Height: 0.55mm; Supplier 1: Digi-Key; value: 100K
footprint RESC1608X55N (Chip Capacitor, Body 1.6x0.8mm, IPC High Density)
pins: 1, 2

## RES SMD 150K OHM 0.5% 1/10W 0603
designator R?, comment 150K  Tolerance: 0.5%
RES SMD 150K OHM 0.5% 1/10W 0603; Manufacturer: Panasonic Electronic Components; Manufacturer Part Number: ERA-3AED154V; Supplier Part Number 1: P123911CT-ND; Package: 0603; Height: 0.55mm; Supplier 1: Digi-Key; value: 150K
footprint RESC1608X55N (Chip Capacitor, Body 1.6x0.8mm, IPC High Density)
pins: 1, 2

## RES SMD 510K OHM 0.5% 1/10W 0603
designator R?, comment 510K  Tolerance: 0.5%
RES SMD 510K OHM 0.5% 1/10W 0603; Manufacturer: Yageo; Manufacturer Part Number: RT0603DRD07510KL; Supplier Part Number 1: YAG4802CT-ND; Package: 0603; Height: 0.55mm; Supplier 1: Digi-Key; value: 510K
footprint RESC1608X55N (Chip Capacitor, Body 1.6x0.8mm, IPC High Density)
pins: 1, 2

## RES SMD 511 OHM 1% 1/10W 0603
designator R?, comment 511R  Tolerance: 0.5%
RES SMD 511 OHM 1% 1/10W 0603; Manufacturer: Panasonic Electronic Components; Manufacturer Part Number: ERJ-3EKF5110V; Supplier Part Number 1: P511HCT-ND; Package: 0603; Height: 0.55mm; Supplier 1: Digi-Key; value: 511R
footprint RESC1608X55N (Chip Capacitor, Body 1.6x0.8mm, IPC High Density)
pins: 1, 2

## RES SMD 604 OHM 0.5% 1/5W 0603
designator R?, comment Tolerance: 0.5%  (hidden comment: 604R)
RES SMD 604 OHM 0.5% 1/5W 0603; Manufacturer Part Number: ERJ-PB3D6040V; Manufacturer: Panasonic Electronic Components; Package: 0603; Supplier Part Number 1: P20258CT-ND; Height: 0.55mm; Supplier 1: Digi-Key; value: 604R
footprint RESC1608X55N (Chip Capacitor, Body 1.6x0.8mm, IPC High Density)
pins: 1, 2

## RES SMD 806 OHM 0.5% 1/10W 0603
designator R?, comment 806R  Tolerance: 0.5%
RES SMD 806 OHM 0.5% 1/10W 0603; Manufacturer: Yageo; Manufacturer Part Number: RT0603DRD0762KL; Supplier Part Number 1: 311-806DCT-ND; Package: 0603; Height: 0.55mm; Supplier 1: Digi-Key; value: 806R
footprint RESC1608X55N (Chip Capacitor, Body 1.6x0.8mm, IPC High Density)
pins: 1, 2

## SN74LVC1G3157YZPR
designator U?
IC SWITCH SPDT 6DSBGA; Manufacturer: Texas Instruments; Manufacturer Part Number: SN74LVC1G3157YZPR; Supplier Part Number 1: SN74LVC1G3157YZPR; Supplier 1: Arrow; Package: 6-DSBGA
footprint 6-DSBGA_139X89
pins: A1 B2, A2 S, B1 GND, B2 VCC, C1 B1, C2 A

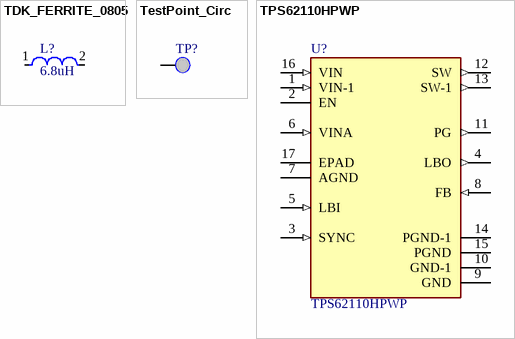
[diagram p2: symbols TDK_FERRITE_0805 to TPS62110HPWP]

## TDK_FERRITE_0805
designator L?, comment 6.8uH
Inductor Power Shielded Multi-Layer 6.8uH 20% 2MHz Ferrite 400mA 520mOhm DCR 0805; Manufacturer: TDK; Manufacturer Part Number: SRR7032-6R8M; Supplier Part Number 1: 652-SRR7032-6R8M; value: 6.8uH; Supplier 1: Mouser
footprint 0805_FERRITE
pins: 1, 2

## TestPoint_Circ
designator TP?  (value not drawn)  (no BOM)
1.5mm diameter test point
footprint CIRC_TEST_POINT_1P5MM (Circular Test Point, 1.5mm Dia.)
pins: 1

## TPS62110HPWP
designator U?
IC REG BUCK ADJ 1.5A 16HTSSOP; Manufacturer: Texas Instruments; Package: 16HTSSOP; Supplier Part Number 1: 296-28274-5-ND; Value: TPS62110HPWP; Manufacturer Part Number: TPS62110HPWP; Supplier 1: Digi-Key
footprint 16-PowerTSSOP_4.4MM
pins: 1 VIN-1 (in), 2 EN (power), 3 SYNC (in), 4 LBO (out), 5 LBI (in), 6 VINA (in), 7 AGND (power), 8 FB (in), 9 GND (power), 10 GND-1 (power), 11 PG (out), 12 SW (out), 13 SW-1 (out), 14 PGND-1 (power), 15 PGND (power), 16 VIN (in), 17 EPAD (power)